# EAGLE library part ATTINY*16 (library atmel)
8-bit AVR tiny-1-series Microcontroller CPU: two-cycle hardware multiplier single pin Unified Program Debug Interface (UPDI) programmable watchdog timer with separate on-chip oscillator programmable brown-out detection circuit with software disable function internal calibrated oscillator Status aktiv aktiv aktiv aktiv ATtiny416 ATtiny816 ATtiny1616 ATtiny3216 General purpose working registers 32 SRAM 256 B 512 B 2 kB 2 kB Program flash memory 4 kB 8 kB 16 kB 32 kB EEPROM 128B 128B 256B 256B 16-bit Timer/Counter type A (TCA) 1 16-bit Timer/Counter type B (TCB) 1 2 12-bit Timer/Counter type D (TCD) 1 Real Time Counter (RTC) 1 USART 1 SPI 1 TWI (I2C) 1 ADC 1 2 ADC channels 12 12+8 ADC resolution 10 bit DAC 1 3 AC 1 3 Peripheral Touch Controller (PTC) - 1 PTC number of self-capacitance channels - 6 12 PTC number of mutual-capacitance channels - 9 36 Custom Configurable Logic/Lookup tables 1/2 Window Watchdog 1 Event System channels 6 General purpose I/O 18 External interrupts 18 CRCSCAN 1 Operating voltage 1.8 ... 5.5 V Speed grade 0 ... 5 MHz @ 1.8 ... 5.5 V 0 ... 10 MHz @ 2.7 ... 5.5 V 0 ... 20 MHz @ 4.5 ... 5.5 V Clock options internal 16/20 MHz low power RC oscillator internal 32.768 kHz ultra low power RC oscillator external 32.768 kHz low-frequency crystal oscillator external clock input Pin Name Other/Special ADC0 ADC1 PTC AC0 AC1 AC2 DAC0 USART0 SPI0 TWI0 TCA0 TCBn TCD0 CCL PA0 !RESET, UPDI AIN0 LUT0-IN0 PA1 AIN1 TxD MOSI SDA LUT0-IN1 PA2 EVOUT0 AIN2 RxD MISO SCL LUT0-IN2 PA3 EXTCLK AIN3 XCK SCK WO3 TCB1 WO PA4 AIN4 AIN0 X0/Y0 XDIR !SS WO4 WOA LUT0-OUT PA5 VREFA AIN5 AIN1 X1/Y1 OUT AINN0 WO5 TCB0 WO WOB PA6 AIN6 AIN2 X2/Y2 AINN0 AINP1 AINP0 OUT PA7 AIN7 AIN3 X3/Y3 AINP0 AINP0 AINN0 LUT1-OUT PB5 CLKOUT AIN8 AINP1 AINP2 WO2 PB4 AIN9 AINN1 AINP3 WO1 LUT0-OUT PB3 TOSC1 OUT RxD WO0 PB2 TOSC2, EVOUT1 OUT TxD WO2 PB1 AIN10 X4/Y4 AINP2 XCK SDA WO1 PB0 AIN11 X5/Y5 AINP2 AINP1 XDIR SCL WO0 PC0 AIN6 SCK TCB0 WO WOC PC1 AIN7 MISO WOD LUT1-OUT PC2 EVOUT2 AIN8 MOSI PC3 AIN9 !SS WO3 LUT1-IN0 only available in devices with 8/16/32KByte flash, X- or Y-line only available in device ATtiny1616/ATtiny3216
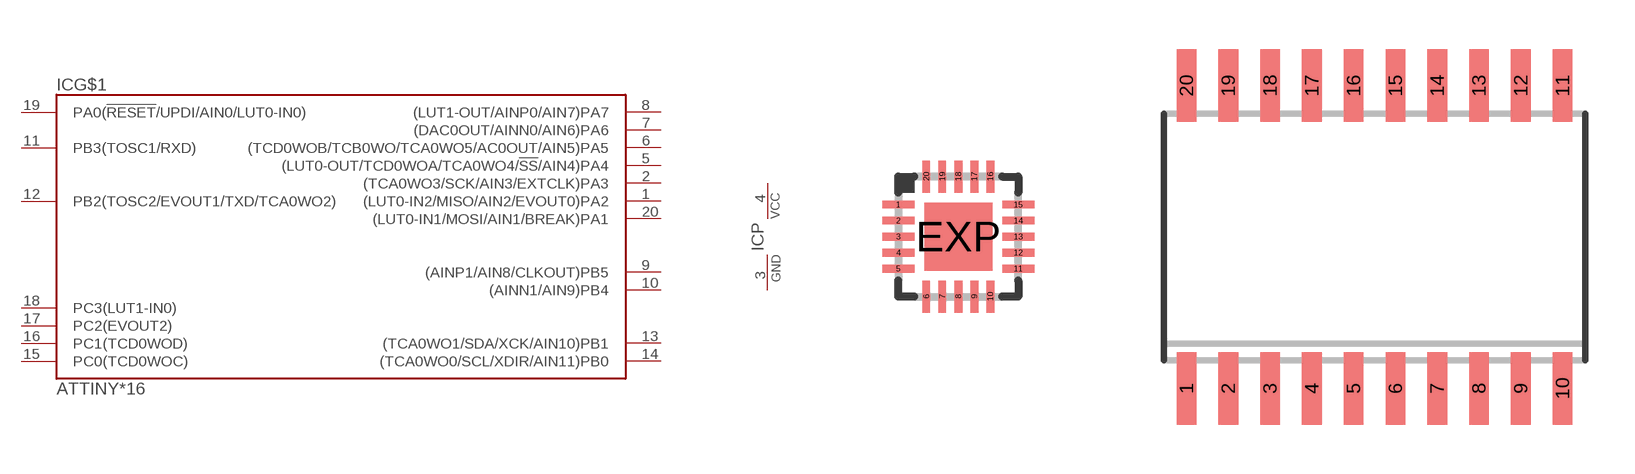
[diagram p90: symbol with the pads of QFN20_3X3_0.40; footprints QFN20_3X3_0.40, SO20W]

Designator prefix IC; gates G$1=TINY816 P=PWR

## ATTINY1616-MN, ATTINY3216-MN, ATTINY416-MN, ATTINY816-MN  [QFN20_3X3_0.40]
1  G$1:(LUT0-IN2/MISO/AIN2/EVOUT0)PA2
2  G$1:(TCA0WO3/SCK/AIN3/EXTCLK)PA3
3  P:GND  pwr
4  P:VCC  pwr
5  G$1:(LUT0-OUT/TCD0WOA/TCA0WO4/!SS!/AIN4)PA4
6  G$1:(TCD0WOB/TCB0WO/TCA0WO5/AC0OUT/AIN5)PA5
7  G$1:(DAC0OUT/AINN0/AIN6)PA6
8  G$1:(LUT1-OUT/AINP0/AIN7)PA7
9  G$1:(AINP1/AIN8/CLKOUT)PB5
10  G$1:(AINN1/AIN9)PB4
11  G$1:PB3(TOSC1/RXD)
12  G$1:PB2(TOSC2/EVOUT1/TXD/TCA0WO2)
13  G$1:(TCA0WO1/SDA/XCK/AIN10)PB1
14  G$1:(TCA0WO0/SCL/XDIR/AIN11)PB0
15  G$1:PC0(TCD0WOC)
16  G$1:PC1(TCD0WOD)
17  G$1:PC2(EVOUT2)
18  G$1:PC3(LUT1-IN0)
19  G$1:PA0(!RESET!/UPDI/AIN0/LUT0-IN0)
20  G$1:(LUT0-IN1/MOSI/AIN1/BREAK)PA1

## ATTINY1616-MF, ATTINY3216-MF, ATTINY416-MF, ATTINY816-MF  [QFN20_3X3_0.40]
Pads as for QFN20_3X3_0.40

## ATTINY1616-SN, ATTINY3216-SN, ATTINY416-SN, ATTINY816-SN  [SO20W]
1  P:VCC  pwr
2  G$1:(LUT0-OUT/TCD0WOA/TCA0WO4/!SS!/AIN4)PA4
3  G$1:(TCD0WOB/TCB0WO/TCA0WO5/AC0OUT/AIN5)PA5
4  G$1:(DAC0OUT/AINN0/AIN6)PA6
5  G$1:(LUT1-OUT/AINP0/AIN7)PA7
6  G$1:(AINP1/AIN8/CLKOUT)PB5
7  G$1:(AINN1/AIN9)PB4
8  G$1:PB3(TOSC1/RXD)
9  G$1:PB2(TOSC2/EVOUT1/TXD/TCA0WO2)
10  G$1:(TCA0WO1/SDA/XCK/AIN10)PB1
11  G$1:(TCA0WO0/SCL/XDIR/AIN11)PB0
12  G$1:PC0(TCD0WOC)
13  G$1:PC1(TCD0WOD)
14  G$1:PC2(EVOUT2)
15  G$1:PC3(LUT1-IN0)
16  G$1:PA0(!RESET!/UPDI/AIN0/LUT0-IN0)
17  G$1:(LUT0-IN1/MOSI/AIN1/BREAK)PA1
18  G$1:(LUT0-IN2/MISO/AIN2/EVOUT0)PA2
19  G$1:(TCA0WO3/SCK/AIN3/EXTCLK)PA3
20  P:GND  pwr

## ATTINY1616-SF, ATTINY3216-SF, ATTINY416-SF, ATTINY816-SF  [SO20W]
Pads as for SO20W

## Footprint QFN20_3X3_0.40 (pad centres in mm)
20-Lead Plastic QFN, 3mm x 3mm body, 0.4mm lead pitch, exposed pad Microchip Code: ZCL
smd 0.8 x 0.2: 1 -1.5,0.8; 2 -1.5,0.4; 3 -1.5,0; 4 -1.5,-0.4; 5 -1.5,-0.8; 11 1.5,-0.8; 12 1.5,-0.4; 13 1.5,0; 14 1.5,0.4; 15 1.5,0.8
smd 0.2 x 0.8: 6 -0.8,-1.5; 7 -0.4,-1.5; 8 0,-1.5; 9 0.4,-1.5; 10 0.8,-1.5; 16 0.8,1.5; 17 0.4,1.5; 18 0,1.5; 19 -0.4,1.5; 20 -0.8,1.5
smd 1.7 x 1.7: EXP 0,0

## Footprint SO20W (pad centres in mm)
Small Outline IC, 300mil body width, 50mil lead pitch package/pad dimensions according to IPC-SM-782, RLP No. 306A JEDEC: MS-013 AC IPC: SO20W other notations: SO-20W, SOIC20W, SOIC-20W
smd 0.6 x 2.2: 1 -5.715,-4.6; 2 -4.445,-4.6; 3 -3.175,-4.6; 4 -1.905,-4.6; 5 -0.635,-4.6; 6 0.635,-4.6; 7 1.905,-4.6; 8 3.175,-4.6; 9 4.445,-4.6; 10 5.715,-4.6; 11 5.715,4.6; 12 4.445,4.6; 13 3.175,4.6; 14 1.905,4.6; 15 0.635,4.6; 16 -0.635,4.6; 17 -1.905,4.6; 18 -3.175,4.6; 19 -4.445,4.6; 20 -5.715,4.6